# Altium footprint library ConnectorsGOST.PcbLib: 50 footprints (part 4 of 4)
Each footprint in its own frame and in the unit in brackets; x right, y up, seen from the top. Pads: shape width x height; smd on the part's side, far side on the other; paste and mask are expansions set on the pad; w line width, h text height; cw(c..) or ccw(c..) is an arc to the next point about the centre after c.
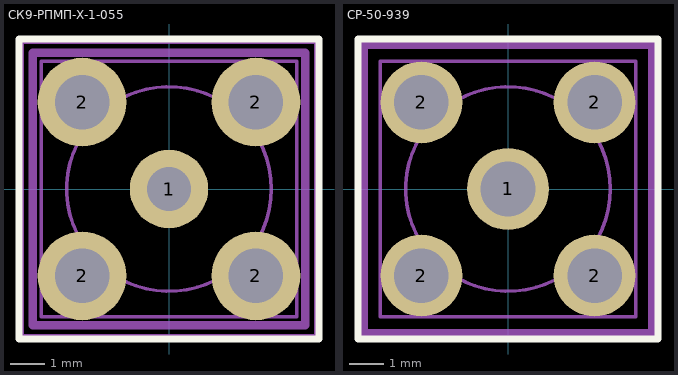
[diagram p3: the footprints below, top view; thin cyan lines are the x and y axes]

## СК9-РПМП-Х-1-055 [mm]
pads (5):
  round 2.3 hole 1.3: 1(0,0)
  round 2.6 hole 1.6: 2(-2.55,-2.55) 2(-2.55,2.55) 2(2.55,-2.55) 2(2.55,2.55)
Top Overlay:
  lines w0.2: -4.4,-4.4 4.4,-4.4 4.4,4.4 -4.4,4.4 -4.4,-4.4
Top Sborka:
  lines w0.25: -4,-4 4,-4 4,4 -4,4 -4,-4
Mechanical 13:
  circle w0.1: c0,0 r3
  lines w0.1: -3.75,-3.75 -3.75,3.75 3.75,3.75 3.75,-3.75 -3.75,-3.75
Mechanical 15:
  lines w0.1: -0.5,0 0.5,0 ; 0,-0.5 0,0.5 ; -4.3,-4.3 4.3,-4.3 4.3,4.3 -4.3,4.3 -4.3,-4.3
Top Designator (Mech16):
  text ".Designator" at -5.15,-0.547 h2.5
3D body "СР-50-939ФМВ-1_3D.stp": height 9.5, standoff -4, extent -3.575,-3.45 3.425,3.55

## СР-50-939 [mm]
pads (5):
  round 2.4 hole 1.6: 1(0,0) 2(-2.54,-2.54) 2(-2.54,2.54) 2(2.54,-2.54) 2(2.54,2.54)
Top Overlay:
  lines w0.2: -4.4,-4.4 4.4,-4.4 4.4,4.4 -4.4,4.4 -4.4,-4.4
Top Sborka:
  lines w0.2: -4.2,-4.2 4.2,-4.2 4.2,4.2 -4.2,4.2 -4.2,-4.2
Mechanical 13:
  circle w0.1: c0,0 r3
  lines w0.1: -3.75,-3.75 -3.75,3.75 3.75,3.75 3.75,-3.75 -3.75,-3.75
Mechanical 15:
  lines w0.1: -0.5,0 0.5,0 ; 0,-0.5 0,0.5 ; -4.3,-4.3 4.3,-4.3 4.3,4.3 -4.3,4.3 -4.3,-4.3
Top Designator (Mech16):
  text ".Designator" at -5.15,-0.547 h2.5
3D body "СР-50-939ФМВ-1_3D.stp": height 9.5, standoff -4, extent -3.575,-3.45 3.425,3.55